# EAGLE library part 39-30-?14? (library con-molex-mini-fit)
HEADER
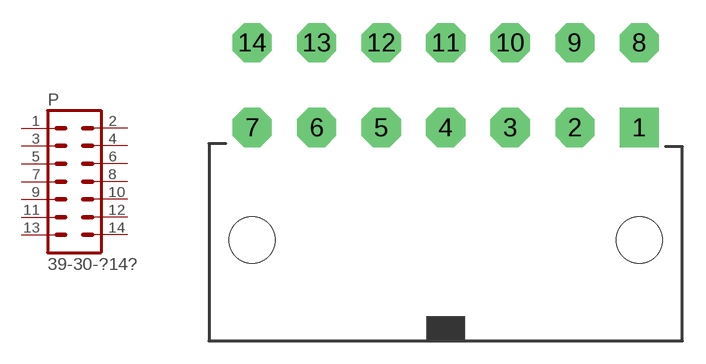
[diagram p4: symbol with the pads of 39-30-?14?; footprint 39-30-?14?]

Designator prefix P

## 39-30-14  [39-30-?14?]
1  1  pas
2  2  pas
3  3  pas
4  4  pas
5  5  pas
6  6  pas
7  7  pas
8  8  pas
9  9  pas
10  10  pas
11  11  pas
12  12  pas
13  13  pas
14  14  pas

## Footprint 39-30-?14? (pad centres in mm)
HEADER
drill 1.422 pad 2.54 square: 1 12.573,0
drill 1.422 pad 2.54 octagon: 2 8.382,0; 3 4.191,0; 4 0,0; 5 -4.191,0; 6 -8.382,0; 7 -12.573,0; 8 12.573,5.512; 9 8.382,5.512; 10 4.191,5.512; 11 0,5.512; 12 -4.191,5.512; 13 -8.382,5.512; 14 -12.573,5.512
hole 3 at -12.573,-7.3
hole 3 at 12.573,-7.3